# Altium schematic symbol library BAS70-04.SchLib: 1 symbol
Pins are listed as number, name and electrical type; pins without a type are passive.

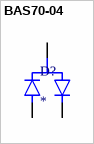
[diagram p0: symbol BAS70-04]

## BAS70-04
designator D?
SOT-23, 70V, 0.07A, Dual Series Connected Schottky Diode; MF: Taiwan Semiconductor; MP: BAS70-04 RFG; SnapEDA_Link: https://www.snapeda.com/parts/BAS70-04%20RFG/Taiwan+Semiconductor/view-part/?ref=snap; Package: SOT-23 Taiwan Semiconductor; Value: *; Check_prices: https://www.snapeda.com/parts/BAS70-04%20RFG/Taiwan+Semiconductor/view-part/?ref=eda
pins: 1, 2, 3